# Altium footprint library 功率 LED.PcbLib: 1 footprints
Each footprint in its own frame and in the unit in brackets; x right, y up, seen from the top. Pads: shape width x height; smd on the part's side, far side on the other; paste and mask are expansions set on the pad; w line width, h text height; cw(c..) or ccw(c..) is an arc to the next point about the centre after c.
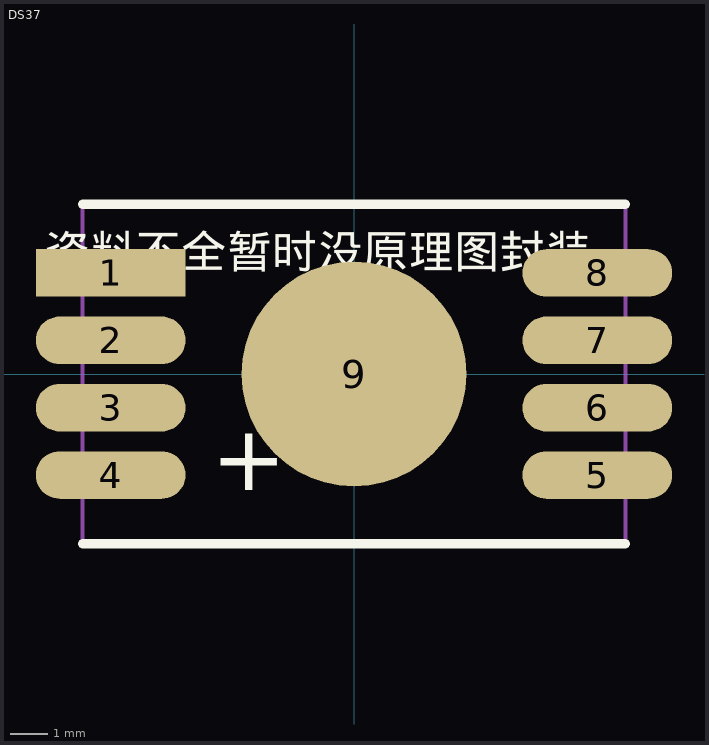
[diagram p0: the footprint, top view; thin cyan lines are the x and y axes]

## DS37 [mm] "全彩大功率 LED"
height 6
pads (9):
  rect 4x1.27 smd: 1(-6.5,2.7)
  oval 4x1.27 smd: 2(-6.5,0.9) 3(-6.5,-0.9) 4(-6.5,-2.7) 5(6.5,-2.7) 6(6.5,-0.9) 7(6.5,0.9) 8(6.5,2.7)
  round 6 smd: 9(0,0)
Top Overlay:
  lines w0.254: -7.25,-4.53 7.25,-4.53 ; -7.25,4.53 7.25,4.53
  text "资料不全暂时没原理图封装" at -8.255,2.54 h1.52
  text "+" at -3.81,-3.683 h3
Mechanical 13:
  lines w0.1: -7.25,-4.53 7.25,-4.53 7.25,4.53 -7.25,4.53 -7.25,-4.53
Mechanical 15:
  lines w0.1: -1,0 1,0 ; 0,-1 0,1
3D body: height 5.5, standoff 0, extent -7.25,-4.53 7.25,4.53